# EAGLE library part BLUENICECOM_IV* (library amber)
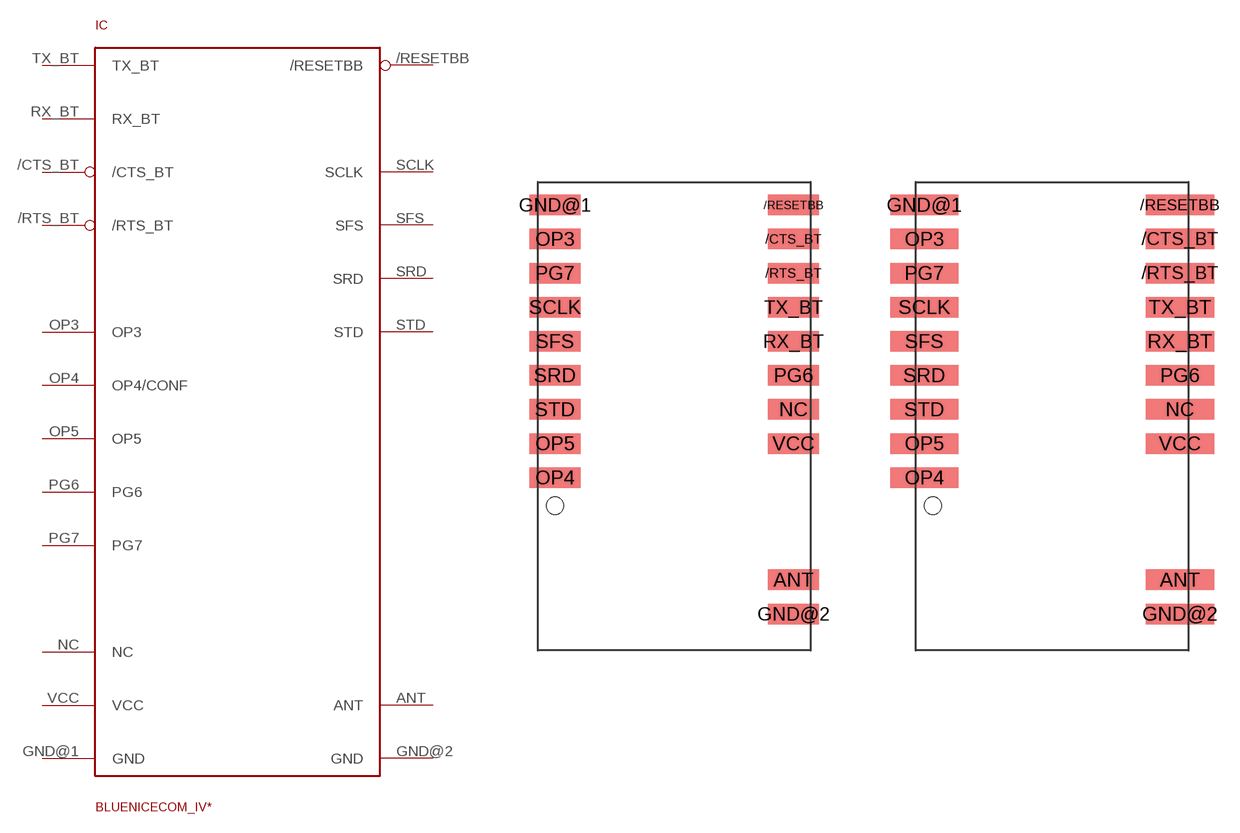
[diagram p0: symbol with the pads of BNC_IV_REFLOW; footprints BNC_IV_REFLOW, BNC_IV_HAND]

Designator prefix IC

## BLUENICECOM_IV_R  [BNC_IV_REFLOW]
/CTS_BT  /CTS_BT  in
/RESETBB  /RESETBB  in
/RTS_BT  /RTS_BT  out
ANT  ANT
GND@1  GND  pwr
GND@2  GND  pwr
NC  NC  in
OP3  OP3  in
OP4  OP4/CONF
OP5  OP5  in
PG6  PG6
PG7  PG7
RX_BT  RX_BT  in
SCLK  SCLK
SFS  SFS
SRD  SRD  in
STD  STD  out
TX_BT  TX_BT  out
VCC  VCC  pwr

## BLUENICECOM_IV_H  [BNC_IV_HAND]
Pads as for BNC_IV_REFLOW

## Footprint BNC_IV_REFLOW (pad centres in mm)
reflow
smd 3 x 1.2: /CTS_BT 4.41,0.66; /RESETBB 4.41,2.66; /RTS_BT 4.41,-1.34; ANT 4.41,-19.34; GND@1 -9.59,2.66; GND@2 4.41,-21.34; NC 4.41,-9.34; OP3 -9.59,0.66; OP4 -9.59,-13.34; OP5 -9.59,-11.34; PG6 4.41,-7.34; PG7 -9.59,-1.34; RX_BT 4.41,-5.34; SCLK -9.59,-3.34; SFS -9.59,-5.34; SRD -9.59,-7.34; STD -9.59,-9.34; TX_BT 4.41,-3.34; VCC 4.41,-11.34
hole 1 at -9.59,-14.99

## Footprint BNC_IV_HAND (pad centres in mm)
handloeten
smd 4 x 1.2: /CTS_BT 4.91,0.66; /RESETBB 4.91,2.66; /RTS_BT 4.91,-1.34; ANT 4.91,-19.34; GND@1 -10.09,2.66; GND@2 4.91,-21.34; NC 4.91,-9.34; OP3 -10.09,0.66; OP4 -10.09,-13.34; OP5 -10.09,-11.34; PG6 4.91,-7.34; PG7 -10.09,-1.34; RX_BT 4.91,-5.34; SCLK -10.09,-3.34; SFS -10.09,-5.34; SRD -10.09,-7.34; STD -10.09,-9.34; TX_BT 4.91,-3.34; VCC 4.91,-11.34
hole 1 at -9.59,-14.99